# Altium footprint library Flash.PcbLib: 2 footprints
Each footprint in its own frame and in the unit in brackets; x right, y up, seen from the top. Pads: shape width x height; smd on the part's side, far side on the other; paste and mask are expansions set on the pad; w line width, h text height; cw(c..) or ccw(c..) is an arc to the next point about the centre after c.
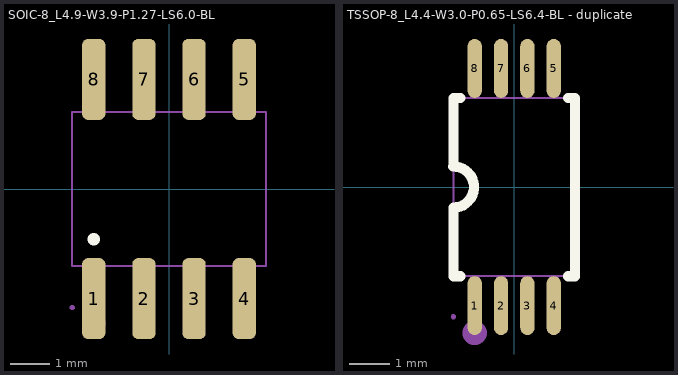
[diagram p0: the footprints below, top view; thin cyan lines are the x and y axes]

## SOIC-8_L4.9-W3.9-P1.27-LS6.0-BL [mm]
pads (8):
  rrect50% 0.588x2.045 smd paste+0 mask+0.051: 1(-1.905,-2.772) 2(-0.635,-2.772) 3(0.635,-2.772) 4(1.905,-2.772) 5(1.905,2.772) 6(0.635,2.772) 7(-0.635,2.772) 8(-1.905,2.772)
Top Overlay:
  circle w0.3: c-1.905,-1.27 r0.007
Mechanical 6:
  circle w0.3: c-1.905,-3.4 r0.15
Mechanical 15:
  region: -2.39,-3 -2.39,-2.975 -2.425,-2.94 -2.475,-2.94 -2.51,-2.975 -2.51,-3 -2.51,-3.025 -2.475,-3.06 -2.425,-3.06 -2.39,-3.025 -2.39,-3
  region: -2.115,-3 -2.115,-2.165 -1.695,-2.165 -1.695,-3
  region: -2.115,-2.175 -2.115,-1.94 -1.695,-1.94 -1.695,-2.175
  region: -0.845,-3 -0.845,-2.165 -0.425,-2.165 -0.425,-3
  region: -0.845,-2.175 -0.845,-1.94 -0.425,-1.94 -0.425,-2.175
  region: 0.425,-3 0.425,-2.165 0.845,-2.165 0.845,-3
  region: 0.425,-2.175 0.425,-1.94 0.845,-1.94 0.845,-2.175
  region: 1.695,-3 1.695,-2.165 2.115,-2.165 2.115,-3
  region: 1.695,-2.175 1.695,-1.94 2.115,-1.94 2.115,-2.175
  region: -2.115,3 -2.115,2.165 -1.695,2.165 -1.695,3
  region: -2.115,2.175 -2.115,1.94 -1.695,1.94 -1.695,2.175
  region: -0.845,3 -0.845,2.165 -0.425,2.165 -0.425,3
  region: -0.845,2.175 -0.845,1.94 -0.425,1.94 -0.425,2.175
  region: 0.425,3 0.425,2.165 0.845,2.165 0.845,3
  region: 0.425,2.175 0.425,1.94 0.845,1.94 0.845,2.175
  region: 1.695,3 1.695,2.165 2.115,2.165 2.115,3
  region: 1.695,2.175 1.695,1.94 2.115,1.94 2.115,2.175
  lines w0.051: -2.45,-1.95 -2.45,1.95 2.45,1.95 2.45,-1.95 -2.45,-1.95
3D body "SOIC8.STEP": height 1.5, standoff 0, extent -2.45,-2.95 2.45,2.95

## TSSOP-8_L4.4-W3.0-P0.65-LS6.4-BL - duplicate [mil]
pads (8):
  oval 13.9x57.24 smd mask+2: 1(-38.39,-115.24) 2(-12.79,-115.24) 3(12.8,-115.24) 4(38.39,-115.24) 5(38.39,115.24) 6(12.8,115.24) 7(-12.79,115.24) 8(-38.39,115.24)
Top Overlay:
  lines w10: -59.1,20 cw(c-59.08,0) -59.05,-20 -59.05,-86.61 -52.28,-86.61 ; -59.05,20 -59.05,86.61 -52.28,86.61 ; 52.28,-86.61 59.05,-86.61 59.05,86.61 52.28,86.61
Mechanical 6:
  circle w11.81: c-38.39,-141.73 r5.91
Mechanical 15:
  region: -56.69,-125.98 -56.69,-125.01 -58.08,-123.62 -60.03,-123.62 -61.42,-125.01 -61.42,-125.98 -61.42,-126.96 -60.03,-128.35 -58.08,-128.35 -56.69,-126.96 -56.69,-125.98
  region: -42.72,-125.98 -42.72,-106.3 -34.05,-106.3 -34.05,-125.98
  region: -42.72,-106.69 -42.72,-86.22 -34.05,-86.22 -34.05,-106.69
  region: -17.13,-125.98 -17.13,-106.3 -8.46,-106.3 -8.46,-125.98
  region: -17.13,-106.69 -17.13,-86.22 -8.46,-86.22 -8.46,-106.69
  region: 8.46,-125.98 8.46,-106.3 17.13,-106.3 17.13,-125.98
  region: 8.46,-106.69 8.46,-86.22 17.13,-86.22 17.13,-106.69
  region: 34.05,-125.98 34.05,-106.3 42.72,-106.3 42.72,-125.98
  region: 34.05,-106.69 34.05,-86.22 42.72,-86.22 42.72,-106.69
  region: -42.72,125.98 -42.72,106.3 -34.05,106.3 -34.05,125.98
  region: -42.72,106.69 -42.72,86.22 -34.05,86.22 -34.05,106.69
  region: -17.13,125.98 -17.13,106.3 -8.46,106.3 -8.46,125.98
  region: -17.13,106.69 -17.13,86.22 -8.46,86.22 -8.46,106.69
  region: 8.46,125.98 8.46,106.3 17.13,106.3 17.13,125.98
  region: 8.46,106.69 8.46,86.22 17.13,86.22 17.13,106.69
  region: 34.05,125.98 34.05,106.3 42.72,106.3 42.72,125.98
  region: 34.05,106.69 34.05,86.22 42.72,86.22 42.72,106.69
  lines w2: -59.05,-86.61 -59.05,86.61 59.05,86.61 59.05,-86.61 -59.05,-86.61
3D body "TSSOP-08.stp": height 43.67, standoff 0.39, extent -49.18,-126.57 49.17,126.59